# EAGLE library part 79109-40_S (library con-molex-milli-grid)
RECEPTACAL
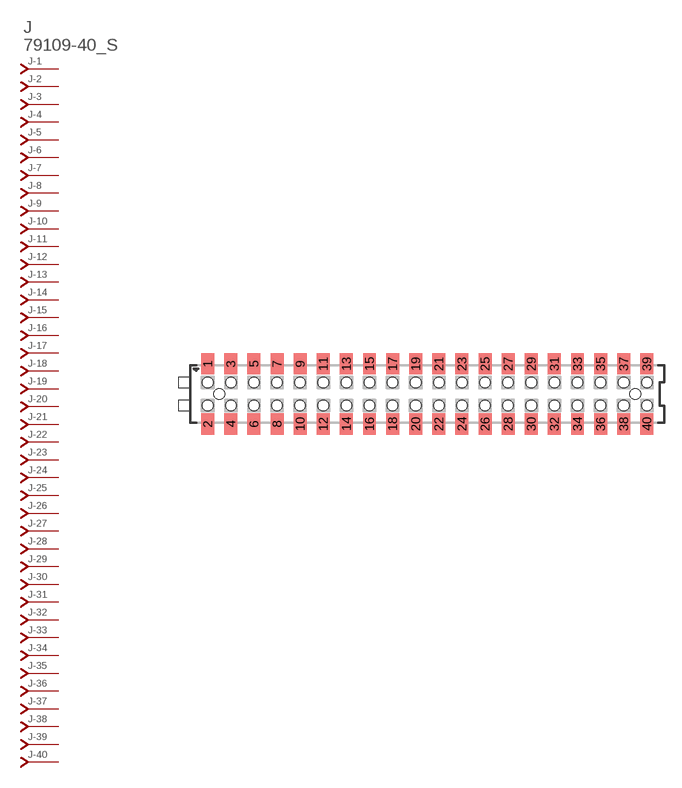
[diagram p276: symbol with the pads of 79109-40; footprint 79109-40]

Designator prefix J; gates -1=J-NV -2=J-N -3=J-N -4=J-N -5=J-N -6=J-N -7=J-N -8=J-N -9=J-N -10=J-N -11=J-N -12=J-N -13=J-N -14=J-N -15=J-N -16=J-N -17=J-N -18=J-N -19=J-N -20=J-N -21=J-N -22=J-N -23=J-N -24=J-N -25=J-N -26=J-N -27=J-N -28=J-N -29=J-N -30=J-N -31=J-N -32=J-N -33=J-N -34=J-N -35=J-N -36=J-N -37=J-N -38=J-N -39=J-N -40=J-N

## 79109-40_S  [79109-40]
1  -1:J  pas
2  -2:J  pas
3  -3:J  pas
4  -4:J  pas
5  -5:J  pas
6  -6:J  pas
7  -7:J  pas
8  -8:J  pas
9  -9:J  pas
10  -10:J  pas
11  -11:J  pas
12  -12:J  pas
13  -13:J  pas
14  -14:J  pas
15  -15:J  pas
16  -16:J  pas
17  -17:J  pas
18  -18:J  pas
19  -19:J  pas
20  -20:J  pas
21  -21:J  pas
22  -22:J  pas
23  -23:J  pas
24  -24:J  pas
25  -25:J  pas
26  -26:J  pas
27  -27:J  pas
28  -28:J  pas
29  -29:J  pas
30  -30:J  pas
31  -31:J  pas
32  -32:J  pas
33  -33:J  pas
34  -34:J  pas
35  -35:J  pas
36  -36:J  pas
37  -37:J  pas
38  -38:J  pas
39  -39:J  pas
40  -40:J  pas

## Footprint 79109-40 (pad centres in mm)
RECEPTACAL SMD Dual Row, Vertical, Pass-Thru
smd 1.12 x 1.83: 1 -19,2.6; 2 -19,-2.6; 3 -17,2.6; 4 -17,-2.6; 5 -15,2.6; 6 -15,-2.6; 7 -13,2.6; 8 -13,-2.6; 9 -11,2.6; 10 -11,-2.6; 11 -9,2.6; 12 -9,-2.6; 13 -7,2.6; 14 -7,-2.6; 15 -5,2.6; 16 -5,-2.6; 17 -3,2.6; 18 -3,-2.6; 19 -1,2.6; 20 -1,-2.6; 21 1,2.6; 22 1,-2.6; 23 3,2.6; 24 3,-2.6; 25 5,2.6; 26 5,-2.6; 27 7,2.6; 28 7,-2.6; 29 9,2.6; 30 9,-2.6; 31 11,2.6; 32 11,-2.6; 33 13,2.6; 34 13,-2.6; 35 15,2.6; 36 15,-2.6; 37 17,2.6; 38 17,-2.6; 39 19,2.6; 40 19,-2.6
hole 0.914 at -18,0
hole 0.914 at -19,1
hole 0.914 at -19,-1
hole 0.914 at -17,-1
hole 0.914 at -17,1
hole 0.914 at -15,-1
hole 0.914 at -15,1
hole 0.914 at 18,0
hole 0.914 at -13,1
hole 0.914 at -13,-1
hole 0.914 at -11,1
hole 0.914 at -11,-1
hole 0.914 at -9,1
hole 0.914 at -9,-1
hole 0.914 at -7,1
hole 0.914 at -7,-1
hole 0.914 at -5,-1
hole 0.914 at -5,1
hole 0.914 at -3,1
hole 0.914 at -3,-1
hole 0.914 at -1,1
hole 0.914 at -1,-1
hole 0.914 at 1,1
hole 0.914 at 1,-1
hole 0.914 at 3,-1
hole 0.914 at 3,1
hole 0.914 at 5,1
hole 0.914 at 7,1
hole 0.914 at 9,1
hole 0.914 at 5,-1
hole 0.914 at 7,-1
hole 0.914 at 9,-1
hole 0.914 at 11,-1
hole 0.914 at 13,-1
hole 0.914 at 15,-1
hole 0.914 at 17,-1
hole 0.914 at 19,-1
hole 0.914 at 11,1
hole 0.914 at 13,1
hole 0.914 at 15,1
hole 0.914 at 17,1
hole 0.914 at 19,1